# Altium footprint library pcb_PassiveRes.PcbLib: 32 footprints (part 1 of 2)
Each footprint in its own frame and in the unit in brackets; x right, y up, seen from the top. Pads: shape width x height; smd on the part's side, far side on the other; paste and mask are expansions set on the pad; w line width, h text height; cw(c..) or ccw(c..) is an arc to the next point about the centre after c.
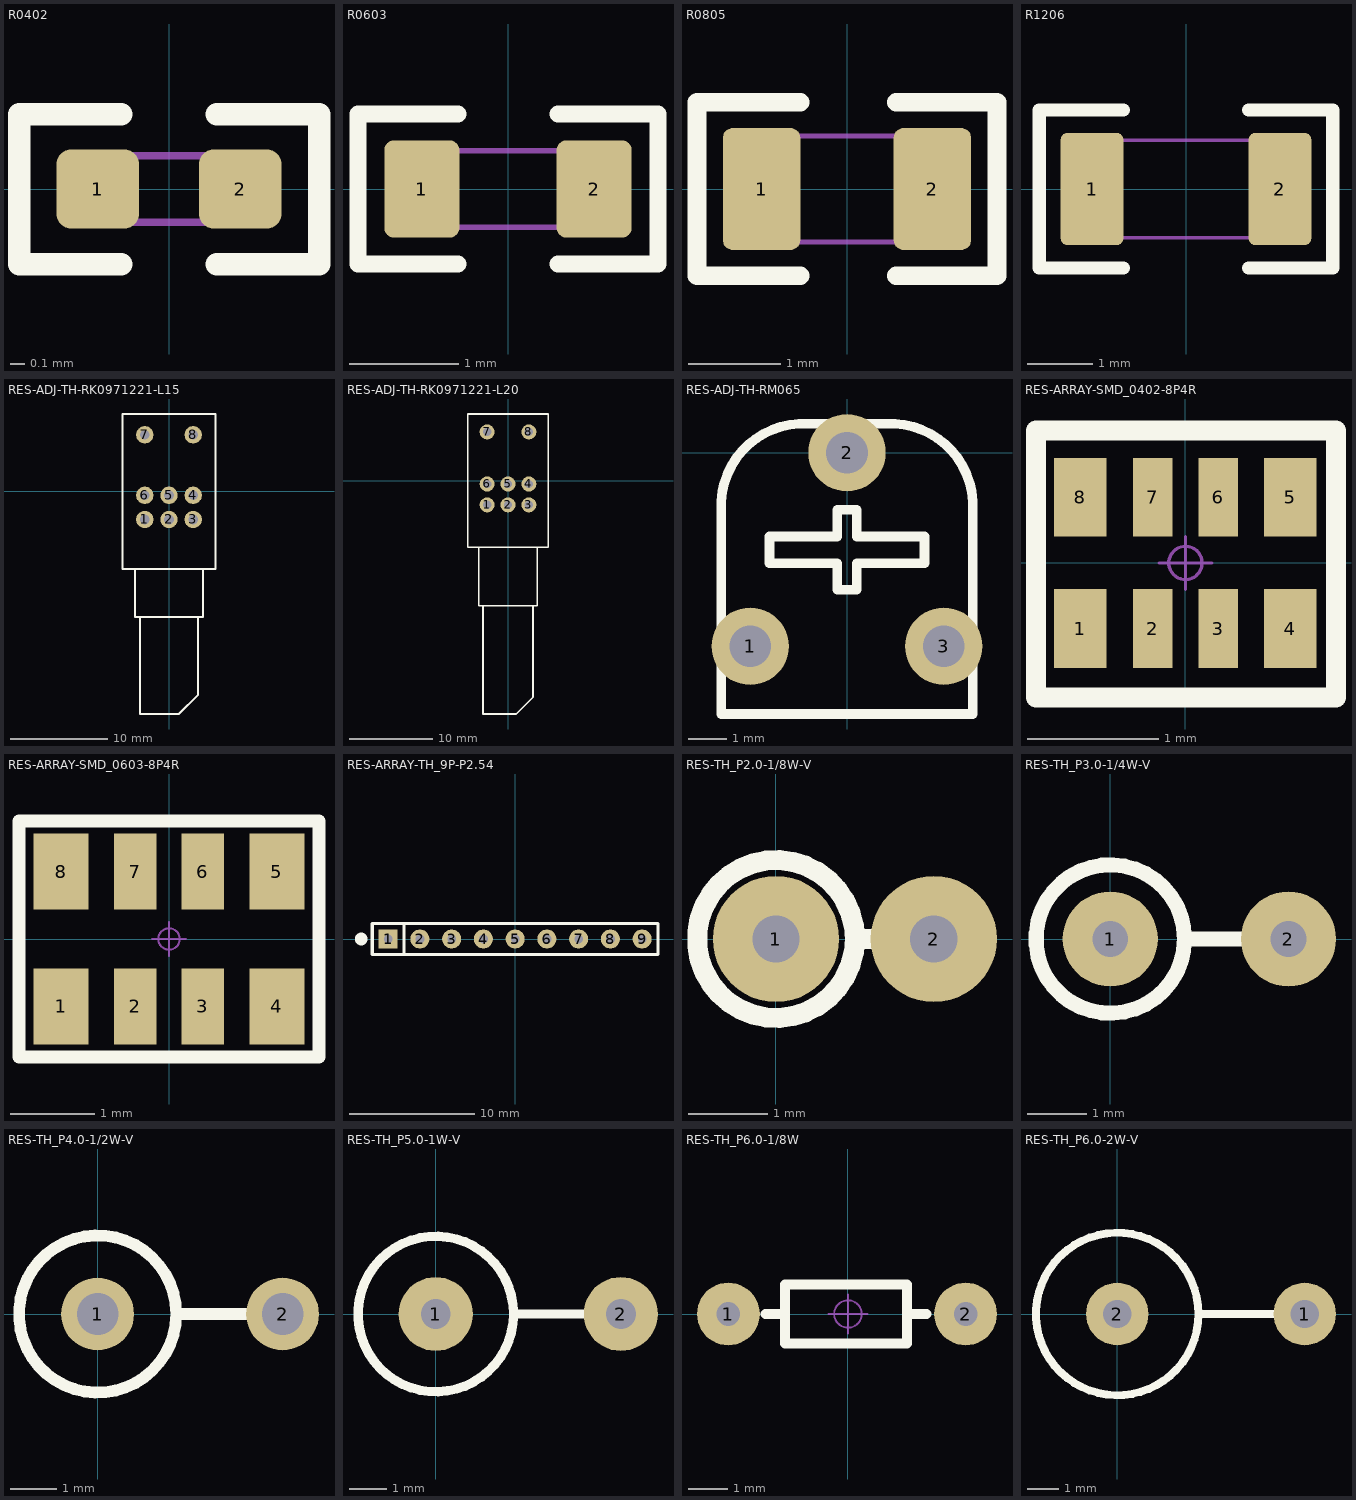
[diagram p0: the footprints below, top view; thin cyan lines are the x and y axes]

## R0402 [mil]
pads (2):
  rrect36% 22x21 smd mask+3: 1(-19,0) 2(19,0)
Top Overlay:
  lines w6: -12.68,-20 -40,-20 -40,20 -12.68,20 ; 12.68,-20 40,-20 40,20 12.68,20
Mechanical 11:
  lines w2.01: -18.7,-8.86 18.7,-8.86 18.7,8.86 -18.7,8.86 -18.7,-8.86
Mechanical 16:
  text ".Designator" at 0,0 h39.37
3D body "RESC1005X03L.step": height 13.78, standoff 0, extent -19.68,-9.84 19.69,9.85

## R0603 [mil]
pads (2):
  rrect25% 27x35 smd mask+3: 1(-31,0) 2(31,0)
Top Overlay:
  lines w6: -18,-27 -54,-27 -54,27 -18,27 ; 18,-27 54,-27 54,27 18,27
Mechanical 11:
  lines w2.01: -29.53,-13.78 -29.53,13.78 29.53,13.78 29.53,-13.78 -29.53,-13.78
Mechanical 16:
  text ".Designator" at 0,0 h39.37
3D body "RESC1608X05L.step": height 17.72, standoff 0, extent -31.49,-15.74 31.5,15.75

## R0805 [mil]
pads (2):
  rrect24% 33x52 smd mask+3: 1(-36.42,0) 2(36.42,0)
Top Overlay:
  lines w8: -20,-37 -64,-37 -64,37 -20,37 ; 21,-37 64,-37 64,37 21,37
Mechanical 11:
  lines w2.01: -37.4,-22.64 37.4,-22.64 37.4,22.64 -37.4,22.64 -37.4,-22.64
Mechanical 16:
  text ".Designator" at 0,0 h39.37
3D body "RESC2012X06L.step": height 23.62, standoff 0, extent -39.37,-24.61 39.37,24.61

## R1206 [mil]
pads (2):
  rrect20% 38x68 smd: 1(-57,0) 2(57,0)
Top Overlay:
  lines w8: -38,-48 -89,-48 -89,48 -38,48 ; 38,-48 89,-48 89,48 38,48
Mechanical 11:
  lines w2.01: -59.06,-29.53 -59.06,29.53 59.06,29.53 59.06,-29.53 -59.06,-29.53
Mechanical 16:
  text ".Designator" at 0,0 h39.37
3D body "RC1206.stp": height 21.65, standoff 0, extent -61.02,-31.5 61.02,31.5

## RES-ADJ-TH-RK0971221-L15 [mm] "双联音量电位器带开关（柄长15mm）"
pads (8):
  round 1.8 hole 1: 1(-2.5,-2.9) 2(0,-2.9) 3(2.5,-2.9) 4(2.5,-0.4) 5(0,-0.4) 6(-2.5,-0.4) 7(-2.5,5.85) 8(2.5,5.85)
Top Overlay:
  lines w0.203: -3.5,-8 -3.5,-13 3.5,-13 3.5,-8 ; -3,-13 -3,-23 1,-23 3,-21 3,-13 ; -4.826,-8 -4.826,8 4.826,8 4.826,-8 -4.826,-8
Mechanical 15:
  circle w0.05: c0,0 r0.35
  lines w0.05: -0.5,0 0.5,0 ; 0,-0.5 0,0.5
Mechanical 16:
  text ".Designator" at 0,0 h1
3D body "RK0971221-L15.STEP": height 11.35, standoff -3.5, extent -4.75,-22.9 4.75,7.9

## RES-ADJ-TH-RK0971221-L20 [mm] "双联音量电位器带开关（柄长20mm）"
pads (8):
  round 1.8 hole 1: 1(-2.5,-2.9) 2(0,-2.9) 3(2.5,-2.9) 4(2.5,-0.4) 5(0,-0.4) 6(-2.5,-0.4) 7(-2.5,5.85) 8(2.5,5.85)
Top Overlay:
  lines w0.203: -3.5,-8 -3.5,-15 3.5,-15 3.5,-8 ; -3,-15 -3,-28 1,-28 3,-26 3,-15 ; -4.826,-8 -4.826,8 4.826,8 4.826,-8 -4.826,-8
Mechanical 15:
  circle w0.05: c0,0 r0.35
  lines w0.05: -0.5,0 0.5,0 ; 0,-0.5 0,0.5
Mechanical 16:
  text ".Designator" at 0,0 h1
3D body "RK0971221-L20.STEP": height 11.35, standoff -3.5, extent -4.75,-27.9 4.75,7.9

## RES-ADJ-TH-RM065 [mil] "蓝白可调电位器"
pads (3):
  round 80 hole 43.31: 1(-100,-200) 2(0,0) 3(100,-200)
Top Overlay:
  lines w10: -130,-270 -130,-50 cw(c-45,-55) -40,30 40,30 cw(c45,-55) 130,-50 130,-270 -130,-270 ; -80,-114.17 -10,-114.17 -10,-141.73 10,-141.73 10,-114.17 80,-114.17 80,-86.61 10,-86.61 10,-59.06 -10,-59.06 -10,-70 -10,-86.61 -80,-86.61 -80,-114.17
Mechanical 16:
  text ".Designator" at 0,0 h39.37
3D body "RM065.STEP": height 299.21, standoff -137.8, extent -127.95,-268.83 127.96,29.59

## RES-ARRAY-SMD_0402-8P4R [mm] "2mm*1mm*0.45mm(长*宽*厚)"
pads (8):
  rect 0.4x0.6 smd: 1(-0.8,-0.5) 4(0.8,-0.5) 5(0.8,0.5) 8(-0.8,0.5)
  rect 0.3x0.6 smd: 2(-0.25,-0.5) 3(0.25,-0.5) 6(0.25,0.5) 7(-0.25,0.5)
Top Overlay:
  lines w0.152: -1.139,-1.024 -1.139,1.008 1.147,1.008 1.147,-1.024 -1.139,-1.024
Mechanical 15:
  circle w0.025: c0,0 r0.127
  lines w0.025: -0.2,0 0.2,0 ; 0,-0.2 0,0.2
Mechanical 16:
  text ".Designator" at 0,0 h1
3D body "RCA-8P4R-0402.STEP": height 0.45, standoff 0, extent -1,-0.5 1,0.5

## RES-ARRAY-SMD_0603-8P4R [mm] "3.2mm*1.6mm*0.6mm(长*宽*厚)"
pads (8):
  rect 0.65x0.9 smd: 1(-1.28,-0.8) 4(1.28,-0.8) 5(1.28,0.8) 8(-1.28,0.8)
  rect 0.5x0.9 smd: 2(-0.4,-0.8) 3(0.4,-0.8) 6(0.4,0.8) 7(-0.4,0.8)
Top Overlay:
  lines w0.152: -1.778,-1.397 1.778,-1.397 1.778,1.397 -1.778,1.397 -1.778,-1.397
Mechanical 15:
  circle w0.025: c0,0 r0.127
  lines w0.025: -0.2,0 0.2,0 ; 0,-0.2 0,0.2
Mechanical 16:
  text ".Designator" at 0,0 h1
3D body "RCA-8P4R-0603.STEP": height 0.6, standoff 0, extent -1.6,-0.8 1.6,0.8

## RES-ARRAY-TH_9P-P2.54 [mil] "Resistor Pack 8"
height 236.22
pads (9):
  rect 60x60 hole 27.56: 1(-400,0)
  round 60 hole 27.56: 2(-300,0) 3(-200,0) 4(-100,0) 5(0,0) 6(100,0) 7(200,0) 8(300,0) 9(400,0)
Top Overlay:
  circle w20: c-485,0 r10
  lines w10: -350,-49.21 -350,49.21 ; -450,-49.21 -450,49.21 450,49.21 450,-49.21 -450,-49.21
Mechanical 16:
  text ".Designator" at 0,0 h39.37
3D body "RP-8.STEP": height 198.82, standoff -135.83, extent -442.91,-24.61 442.91,24.61

## RES-TH_P2.0-1/8W-V [mm] "直插色环电阻，脚距2mm，直径1.5mm"
pads (2):
  round 1.6 hole 0.6: 1(0,0) 2(2,0)
Top Overlay:
  circle w0.254: c0,0 r1
  lines w0.254: 1,0 2,0
Mechanical 15:
  circle w0.05: c0,0 r0.35
  lines w0.05: -0.5,0 0.5,0 ; 0,-0.5 0,0.5
Mechanical 16:
  text ".Designator" at 0,0 h1
3D body "RS 1-8W-V2.STEP": height 4.02, standoff -3.65, extent -0.757,-0.757 2.225,0.757

## RES-TH_P3.0-1/4W-V [mm] "直插色环电阻，脚距3mm，直径2.3mm"
pads (2):
  round 1.6 hole 0.6: 1(0,0) 2(3,0)
Top Overlay:
  circle w0.254: c0,0 r1.25
  lines w0.254: 1.25,0 2.5,0
Mechanical 15:
  circle w0.05: c0,0 r0.35
  lines w0.05: -0.5,0 0.5,0 ; 0,-0.5 0,0.5
Mechanical 16:
  text ".Designator" at 0,0 h1
3D body "RS 1-4W-V3.STEP": height 7.42, standoff -3.5, extent -1.16,-1.16 3.225,1.16

## RES-TH_P4.0-1/2W-V [mil] "直插色环电阻，脚距4mm，直径3mm"
pads (2):
  round 62 hole 35.43: 1(0,0) 2(157.48,0)
Top Overlay:
  circle w10: c0,0 r66.93
  lines w10: 66.93,0 133.86,0
Mechanical 15:
  circle w1.97: c0,0 r13.78
  lines w1.97: -19.68,0 19.68,0 ; 0,-19.68 0,19.68
Mechanical 16:
  text ".Designator" at 0,0 h39.37
3D body "RS 1-2W-V4.STEP": height 423.17, standoff -137.89, extent -59.44,-59.44 167.33,59.46

## RES-TH_P5.0-1W-V [mm] "直插色环电阻，脚距5mm，直径4mm"
pads (2):
  round 2 hole 0.8: 1(0,0) 2(5,0)
Top Overlay:
  circle w0.254: c0,0 r2.1
  lines w0.254: 2.1,0 4.2,0
Mechanical 15:
  circle w0.05: c0,0 r0.35
  lines w0.05: -0.5,0 0.5,0 ; 0,-0.5 0,0.5
Mechanical 16:
  text ".Designator" at 0,0 h1
3D body "RS 1W-V5.STEP": height 13.3, standoff -3.5, extent -2.01,-2.01 5.3,2.01

## RES-TH_P6.0-1/8W [mm] "直插色环电阻，脚距6mm，直径1.5mm"
pads (2):
  round 1.6 hole 0.6: 1(-3.048,0) 2(3,0)
Top Overlay:
  lines w0.254: -2.1,0 -1.6,0 ; 2,0 1.5,0 ; -1.6,0 -1.6,0.75 1.5,0.75 1.5,0 ; -1.6,0 -1.6,-0.75 1.5,-0.75 1.5,0
Mechanical 15:
  circle w0.05: c0,0 r0.35
  lines w0.05: -0.5,0 0.5,0 ; 0,-0.5 0,0.5
Mechanical 16:
  text ".Designator" at 0,0 h1
3D body "RS 1-8W.STEP": height 1.52, standoff -3.49, extent -3.225,-0.757 3.225,0.757

## RES-TH_P6.0-2W-V [mm] "直插色环电阻，脚距6mm，直径5mm"
pads (2):
  round 2 hole 0.9: 1(6,0) 2(0,0)
Top Overlay:
  circle w0.254: c0,0 r2.6
  lines w0.254: 2.6,0 5.2,0
Mechanical 15:
  circle w0.05: c0,0 r0.35
  lines w0.05: -0.5,0 0.5,0 ; 0,-0.5 0,0.5
Mechanical 16:
  text ".Designator" at 0,0 h1
3D body "RS 2W-V6.STEP": height 17.6, standoff -3.5, extent -2.51,-2.51 6.4,2.51